# Altium schematic symbol library EncoderDebouncerComponents.SchLib: 2 symbols
Pins are listed as number, name and electrical type; pins without a type are passive.

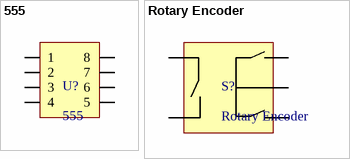
[diagram p0: symbols 555 to Rotary Encoder]

## 555
designator U?
pins: 1, 2, 3, 4, 5, 6, 7, 8

## Rotary Encoder
designator S?
pins: 1, 2, 3, 4, 5